# Altium footprint library NetTie.PcbLib: 1 footprints
Each footprint in its own frame and in the unit in brackets; x right, y up, seen from the top. Pads: shape width x height; smd on the part's side, far side on the other; paste and mask are expansions set on the pad; w line width, h text height; cw(c..) or ccw(c..) is an arc to the next point about the centre after c.
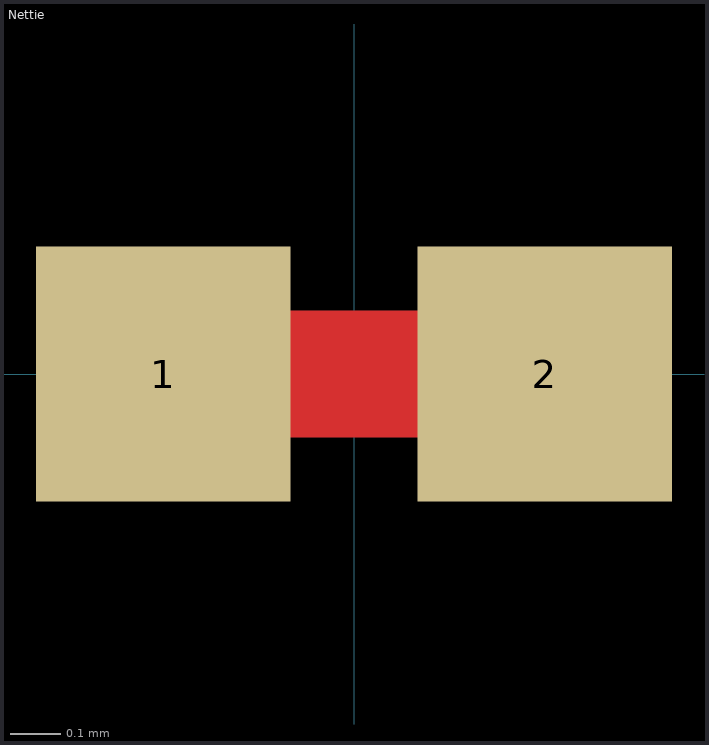
[diagram p0: the footprint, top view; thin cyan lines are the x and y axes]

## Nettie [mil]
pads (2):
  rect 20x20 smd mask-100: 1(-15,0) 2(15,0)
Top Layer:
  rectangle: -10,-5 10,5